# Altium schematic symbol library MB0040A.01.A.1.SchLib: 1 symbol
Pins are listed as number, name and electrical type; pins without a type are passive.

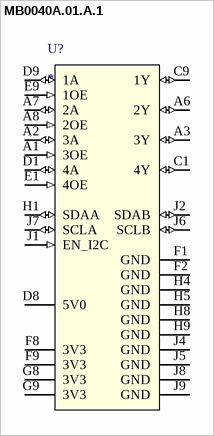
[diagram p0: symbol MB0040A.01.A.1]

## MB0040A.01.A.1
designator U?
pins: A1 3OE (in), A2 3A (io), A3 3Y (io), A6 2Y (io), A7 2A (io), A8 2OE (in), C1 4Y (io), C9 1Y (io), D1 4A (io), D8 5V0 (power), D9 1A (io), E1 4OE (in), E9 1OE (in), F1 GND (power), F2 GND (power), F8 3V3 (power), F9 3V3 (power), G8 3V3 (power), G9 3V3 (power), H1 SDAA (io), H4 GND (power), H5 GND (power), H8 GND (power), H9 GND (power), J1 EN_I2C (in), J2 SDAB (io), J4 GND (power), J5 GND (power), J6 SCLB (io), J7 SCLA (io), J8 GND (power), J9 GND (power)